# EAGLE library part IC_LTC4090 (library 0kaz)
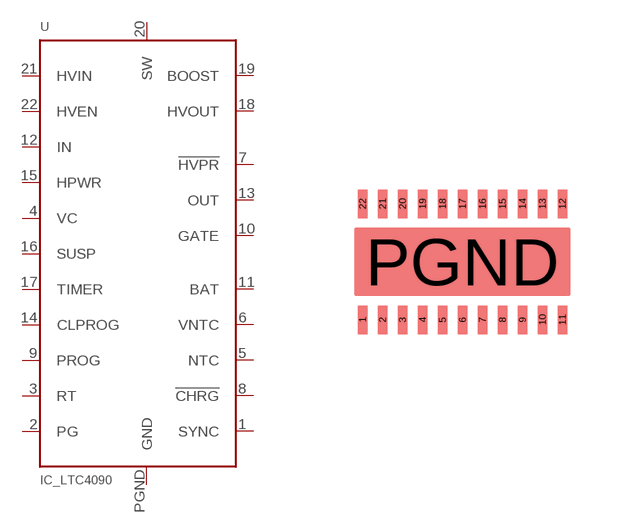
[diagram p8: symbol with the pads of DFN-22; footprint DFN-22]

Designator prefix -

## IC_LTC4090  [DFN-22]
1  SYNC
2  PG
3  RT
4  VC
5  NTC
6  VNTC
7  !HVPR!
8  !CHRG!
9  PROG
10  GATE
11  BAT
12  IN
13  OUT
14  CLPROG
15  HPWR
16  SUSP
17  TIMER
18  HVOUT
19  BOOST
20  SW
21  HVIN
22  HVEN
PGND  GND

## Footprint DFN-22 (pad centres in mm)
smd 0.25 x 0.7: 1 -2.5,-1.45; 2 -2,-1.45; 3 -1.5,-1.45; 4 -1,-1.45; 5 -0.5,-1.45; 6 0,-1.45; 7 0.5,-1.45; 8 1,-1.45; 9 1.5,-1.45; 10 2,-1.45; 11 2.5,-1.45; 12 2.5,1.45; 13 2,1.45; 14 1.5,1.45; 15 1,1.45; 16 0.5,1.45; 17 0,1.45; 18 -0.5,1.45; 19 -1,1.45; 20 -1.5,1.45; 21 -2,1.45; 22 -2.5,1.45
smd 5.4 x 1.7: PGND 0,0